# EAGLE library part PIC18F4620 (library netnode)
PIC18F4620 Microchip PIC microcontroller By Lieven Hollevoet, 2005
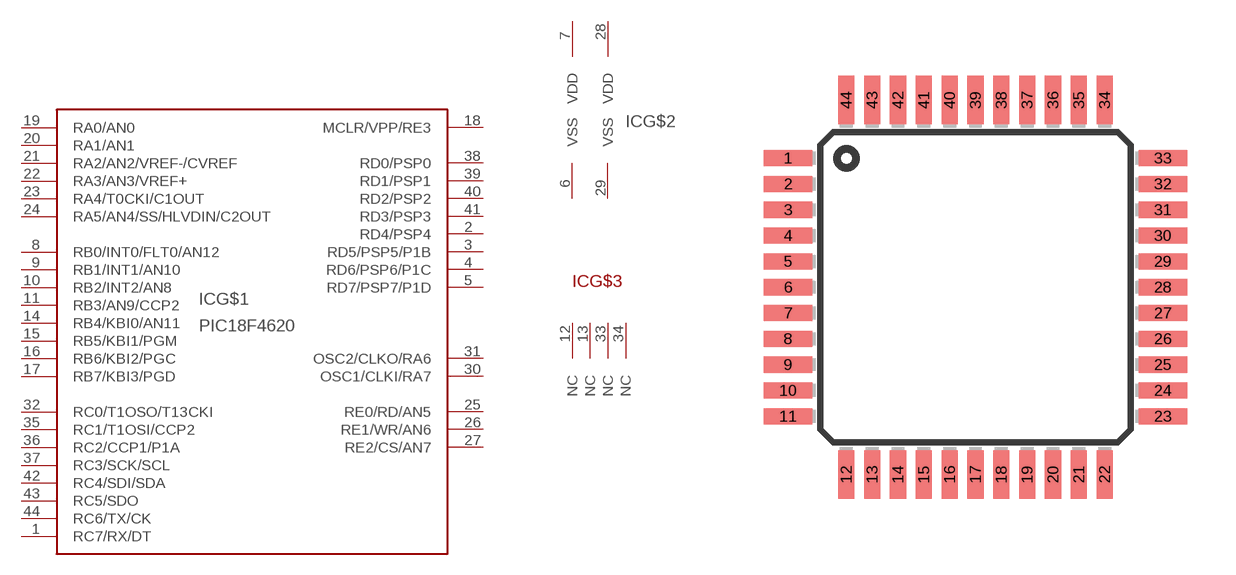
[diagram p1: symbol with the pads of TQFP44; footprint TQFP44]

Designator prefix IC; gates G$1=PIC18F4620 G$2=POWER G$3=NOCONN

## PIC18F4620PT  [TQFP44]
1  G$1:RC7/RX/DT
2  G$1:RD4/PSP4
3  G$1:RD5/PSP5/P1B
4  G$1:RD6/PSP6/P1C
5  G$1:RD7/PSP7/P1D
6  G$2:VSS  pwr
7  G$2:VDD  pwr
8  G$1:RB0/INT0/FLT0/AN12
9  G$1:RB1/INT1/AN10
10  G$1:RB2/INT2/AN8
11  G$1:RB3/AN9/CCP2
12  G$3:NC  nc
13  G$3:NC  nc
14  G$1:RB4/KBI0/AN11
15  G$1:RB5/KBI1/PGM
16  G$1:RB6/KBI2/PGC
17  G$1:RB7/KBI3/PGD
18  G$1:MCLR/VPP/RE3
19  G$1:RA0/AN0
20  G$1:RA1/AN1
21  G$1:RA2/AN2/VREF-/CVREF
22  G$1:RA3/AN3/VREF+
23  G$1:RA4/T0CKI/C1OUT
24  G$1:RA5/AN4/SS/HLVDIN/C2OUT
25  G$1:RE0/RD/AN5
26  G$1:RE1/WR/AN6
27  G$1:RE2/CS/AN7
28  G$2:VDD  pwr
29  G$2:VSS  pwr
30  G$1:OSC1/CLKI/RA7
31  G$1:OSC2/CLKO/RA6
32  G$1:RC0/T1OSO/T13CKI
33  G$3:NC  nc
34  G$3:NC  nc
35  G$1:RC1/T1OSI/CCP2
36  G$1:RC2/CCP1/P1A
37  G$1:RC3/SCK/SCL
38  G$1:RD0/PSP0
39  G$1:RD1/PSP1
40  G$1:RD2/PSP2
41  G$1:RD3/PSP3
42  G$1:RC4/SDI/SDA
43  G$1:RC5/SDO
44  G$1:RC6/TX/CK

## Footprint TQFP44 (pad centres in mm)
Thin Quad Flat Pack package type TQ
smd 1.5 x 0.5: 1 -5.8,4; 2 -5.8,3.2; 3 -5.8,2.4; 4 -5.8,1.6; 5 -5.8,0.8; 6 -5.8,0; 7 -5.8,-0.8; 8 -5.8,-1.6; 9 -5.8,-2.4; 10 -5.8,-3.2; 11 -5.8,-4; 23 5.8,-4; 24 5.8,-3.2; 25 5.8,-2.4; 26 5.8,-1.6; 27 5.8,-0.8; 28 5.8,0; 29 5.8,0.8; 30 5.8,1.6; 31 5.8,2.4; 32 5.8,3.2; 33 5.8,4
smd 0.5 x 1.5: 12 -4,-5.8; 13 -3.2,-5.8; 14 -2.4,-5.8; 15 -1.6,-5.8; 16 -0.8,-5.8; 17 0,-5.8; 18 0.8,-5.8; 19 1.6,-5.8; 20 2.4,-5.8; 21 3.2,-5.8; 22 4,-5.8; 34 4,5.8; 35 3.2,5.8; 36 2.4,5.8; 37 1.6,5.8; 38 0.8,5.8; 39 0,5.8; 40 -0.8,5.8; 41 -1.6,5.8; 42 -2.4,5.8; 43 -3.2,5.8; 44 -4,5.8